# Altium footprint library Coilcraft_XAL60xx.PcbLib: 1 footprints
Each footprint in its own frame and in the unit in brackets; x right, y up, seen from the top. Pads: shape width x height; smd on the part's side, far side on the other; paste and mask are expansions set on the pad; w line width, h text height; cw(c..) or ccw(c..) is an arc to the next point about the centre after c.
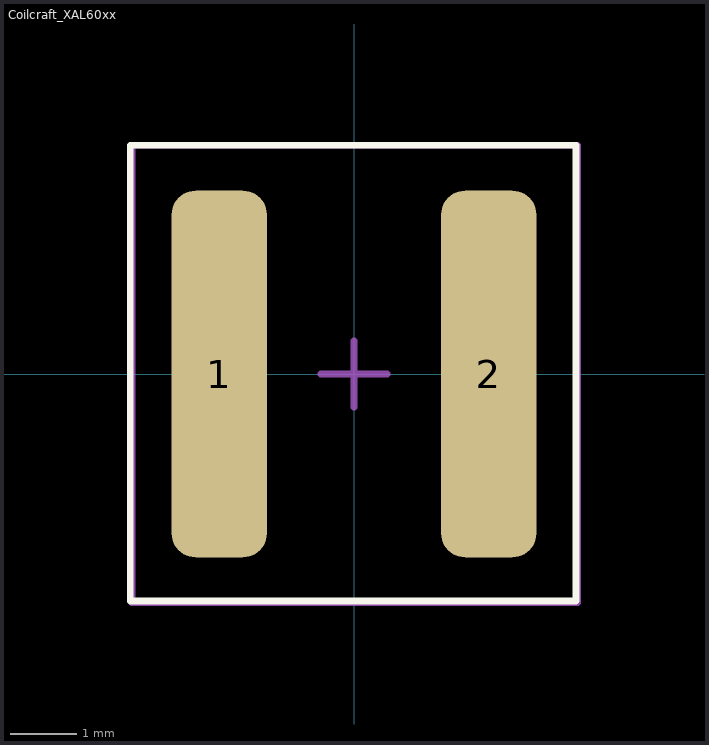
[diagram p0: the footprint, top view; thin cyan lines are the x and y axes]

## Coilcraft_XAL60xx [mm] "Coilcraft XAL60xx Series Coil"
height 6.1
pads (2):
  rrect50% 1.43x5.5 smd: 1(-2.02,0) 2(2.02,0)
Top Overlay:
  lines w0.1: -3.353,-3.404 -3.353,3.429 3.327,3.429 3.327,-3.404 -3.353,-3.404
Mechanical 15:
  lines w0.1: -0.5,0 0.5,0 ; 0,-0.5 0,0.5 ; -3.327,-3.429 3.353,-3.429 3.353,3.429 -3.327,3.429 -3.327,-3.429
3D body "Coilcraft-XAL6060.STEP": height 6, standoff -0.1, extent -3.277,-3.38 3.283,3.38